# EAGLE library part ADS7223 (library kiks-ic)
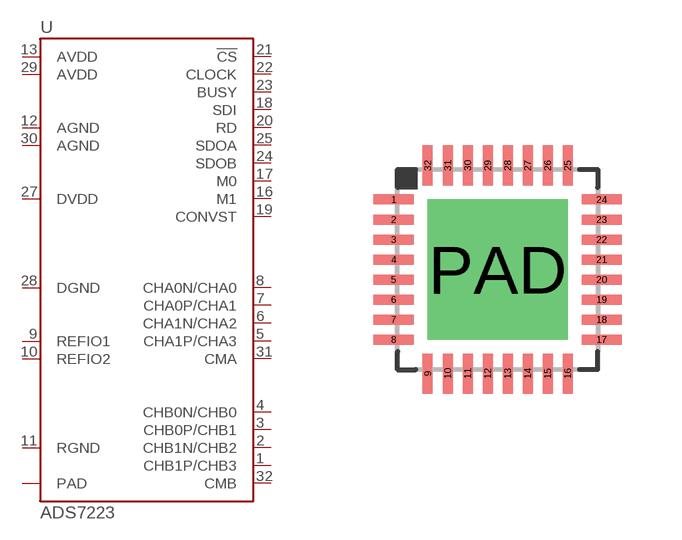
[diagram p7: symbol with the pads of QFN32-0.5; footprint QFN32-0.5]

Designator prefix U

## ADS7223  [QFN32-0.5]
1  CHB1P/CHB3
2  CHB1N/CHB2
3  CHB0P/CHB1
4  CHB0N/CHB0
5  CHA1P/CHA3
6  CHA1N/CHA2
7  CHA0P/CHA1
8  CHA0N/CHA0
9  REFIO1
10  REFIO2
11  RGND
12  AGND
13  AVDD
16  M1
17  M0
18  SDI
19  CONVST
20  RD
21  !CS
22  CLOCK
23  BUSY
24  SDOB
25  SDOA
27  DVDD
28  DGND
29  AVDD
30  AGND
31  CMA
32  CMB
PAD  PAD

## Footprint QFN32-0.5 (pad centres in mm)
smd 1 x 0.25: 1 -2.6,1.75; 2 -2.6,1.25; 3 -2.6,0.75; 4 -2.6,0.25; 5 -2.6,-0.25; 6 -2.6,-0.75; 7 -2.6,-1.25; 8 -2.6,-1.75; 17 2.6,-1.75; 18 2.6,-1.25; 19 2.6,-0.75; 20 2.6,-0.25; 21 2.6,0.25; 22 2.6,0.75; 23 2.6,1.25; 24 2.6,1.75
smd 0.25 x 1: 9 -1.75,-2.6; 10 -1.25,-2.6; 11 -0.75,-2.6; 12 -0.25,-2.6; 13 0.25,-2.6; 14 0.75,-2.6; 15 1.25,-2.6; 16 1.75,-2.6; 25 1.75,2.6; 26 1.25,2.6; 27 0.75,2.6; 28 0.25,2.6; 29 -0.25,2.6; 30 -0.75,2.6; 31 -1.25,2.6; 32 -1.75,2.6
drill 2.1 pad 3.5 square: PAD 0,0